# EAGLE library part MAX1921EUT18+T (library MAX1921EUT18+T)
MAXIM INTEGRATED PRODUCTS - MAX1921EUT18+T - DC/DC CONV, BUCK, 1.2MHZ, SOT-23-6 Source: Datasheet <https://componentsearchengine.com/Datasheets/1/MAX1921EUT18 T.pdf>
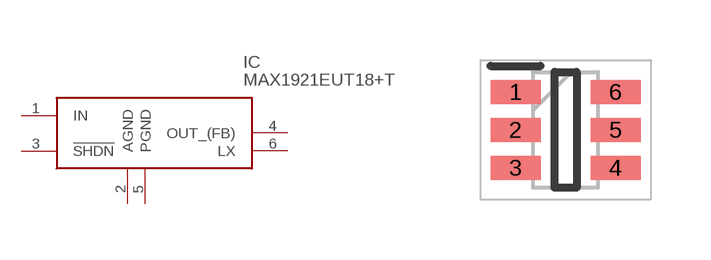
[diagram p0: symbol with the pads of SOT95P280X145-6N; footprint SOT95P280X145-6N]

Designator prefix IC

## MAX1921EUT18+T (DESCRIPTION: MAXIM INTEGRATED PRODUCTS - MAX1921EUT18+T - DC/DC CONV, BUCK, 1.2MHZ, SOT-23-6; HEIGHT: 1.45mm; MANUFACTURER_NAME: Maxim Integrated; MANUFACTURER_PART_NUMBER: MAX1921EUT18+T; MOUSER_PART_NUMBER: 700-MAX1921EUT18T; MOUSER_PRICE-STOCK: https://www.mouser.com/Search/Refine.aspx?Keyword=700-MAX1921EUT18T)  [SOT95P280X145-6N]
1  IN
2  AGND
3  !SHDN
4  OUT_(FB)
5  PGND
6  LX

## Footprint SOT95P280X145-6N (pad centres in mm)
SOT 6L BODY
smd 1.25 x 0.6: 1 -1.25,0.95; 2 -1.25,0; 3 -1.25,-0.95; 4 1.25,-0.95; 5 1.25,0; 6 1.25,0.95